# EAGLE library part AD8531ARZ (library AD8531ARZ)
250 mA Output, Low Cost, Single-Supply Amplifier Source: Datasheet <https://www.analog.com/AD8531/datasheet>
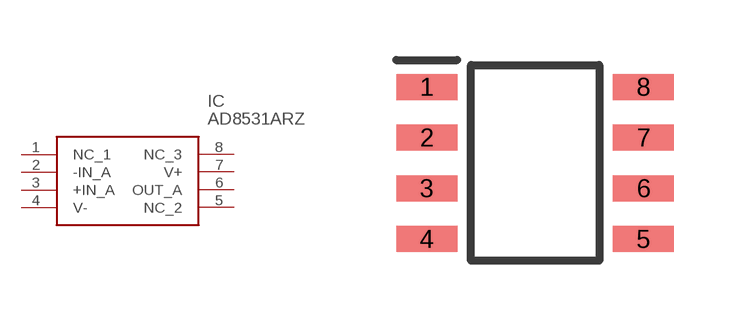
[diagram p0: symbol with the pads of SOIC127P600X175-8N; footprint SOIC127P600X175-8N]

Designator prefix IC

## AD8531ARZ (DESCRIPTION: 250 mA Output, Low Cost, Single-Supply Amplifier; HEIGHT: 1.75mm; MANUFACTURER_NAME: Analog Devices; MANUFACTURER_PART_NUMBER: AD8531ARZ; MOUSER_PART_NUMBER: 584-AD8531ARZ; MOUSER_PRICE-STOCK: https://www.mouser.co.uk/ProductDetail/Analog-Devices/AD8531ARZ?qs=%2FtpEQrCGXCxqCqynf0JWOw%3D%3D)  [SOIC127P600X175-8N]
1  NC_1
2  -IN_A
3  +IN_A
4  V-
5  NC_2
6  OUT_A
7  V+
8  NC_3

## Footprint SOIC127P600X175-8N (pad centres in mm)
- [SOIC_N]-
smd 1.525 x 0.65: 1 -2.712,1.905; 2 -2.712,0.635; 3 -2.712,-0.635; 4 -2.712,-1.905; 5 2.712,-1.905; 6 2.712,-0.635; 7 2.712,0.635; 8 2.712,1.905